# EAGLE library part BOSCH_BMI160 (library Z-Wave_Europe)
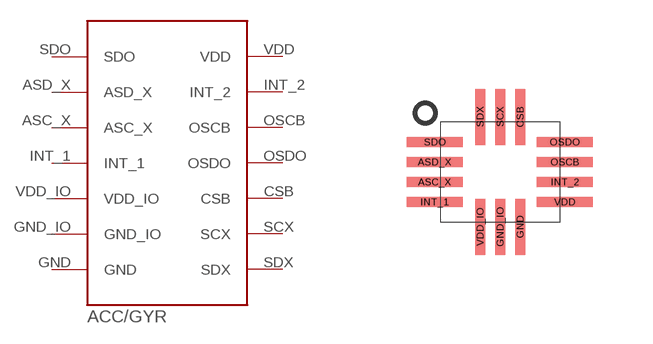
[diagram p2: symbol with the pads of LGA-14; footprint LGA-14]

Designator prefix ACC/GYR

## BOSCH_BMI160  [LGA-14]
ASC_X  ASC_X
ASD_X  ASD_X
CSB  CSB
GND  GND
GND_IO  GND_IO
INT_1  INT_1
INT_2  INT_2
OSCB  OSCB
OSDO  OSDO
SCX  SCX
SDO  SDO
SDX  SDX
VDD  VDD
VDD_IO  VDD_IO

## Footprint LGA-14 (pad centres in mm)
smd 1.4 x 0.25: ASC_X -0.14,-1.5; ASD_X -0.14,-1; INT_1 -0.14,-2; INT_2 3.12,-1.5; OSCB 3.12,-1; OSDO 3.12,-0.5; SDO -0.13,-0.5; VDD 3.12,-2
smd 0.25 x 1.4: CSB 2,0.13; GND 2,-2.62; GND_IO 1.5,-2.62; SCX 1.5,0.13; SDX 1,0.13; VDD_IO 1,-2.62